# Altium integrated library Ferrite Beads 0805.IntLib: 1 symbol
Pins are listed as number, name and electrical type; pins without a type are passive.

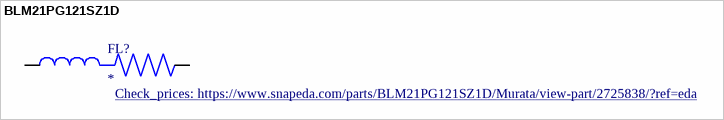
[diagram p0: symbol BLM21PG121SZ1D]

## BLM21PG121SZ1D
designator FL?
1 Power Line Ferrite Bead 0805 (2012 Metric) 3A 30mOhm; MP: BLM21PG121SZ1D; MF: Murata Electronics; SnapEDA_Link: https://www.snapeda.com/parts/BLM21PG121SZ1D/Murata/view-part/2725838/?ref=snap; Availability: Good; Price: None; Value: *; Purchase-URL: https://pricing.snapeda.com/search/part/BLM21PG121SZ1D/?ref=eda; Package: 2012 Murata; Check_prices: https://www.snapeda.com/parts/BLM21PG121SZ1D/Murata/view-part/2725838/?ref=eda
footprint BEADC2012X105N
pins: 1, 2